# Altium schematic symbol library SCH - MCU - STM32 - ST MICROELECTRONICS STM32F103V(C-D-E)HX LFBGA100.SchLib: 1 symbol
Pins are listed as number, name and electrical type; pins without a type are passive.

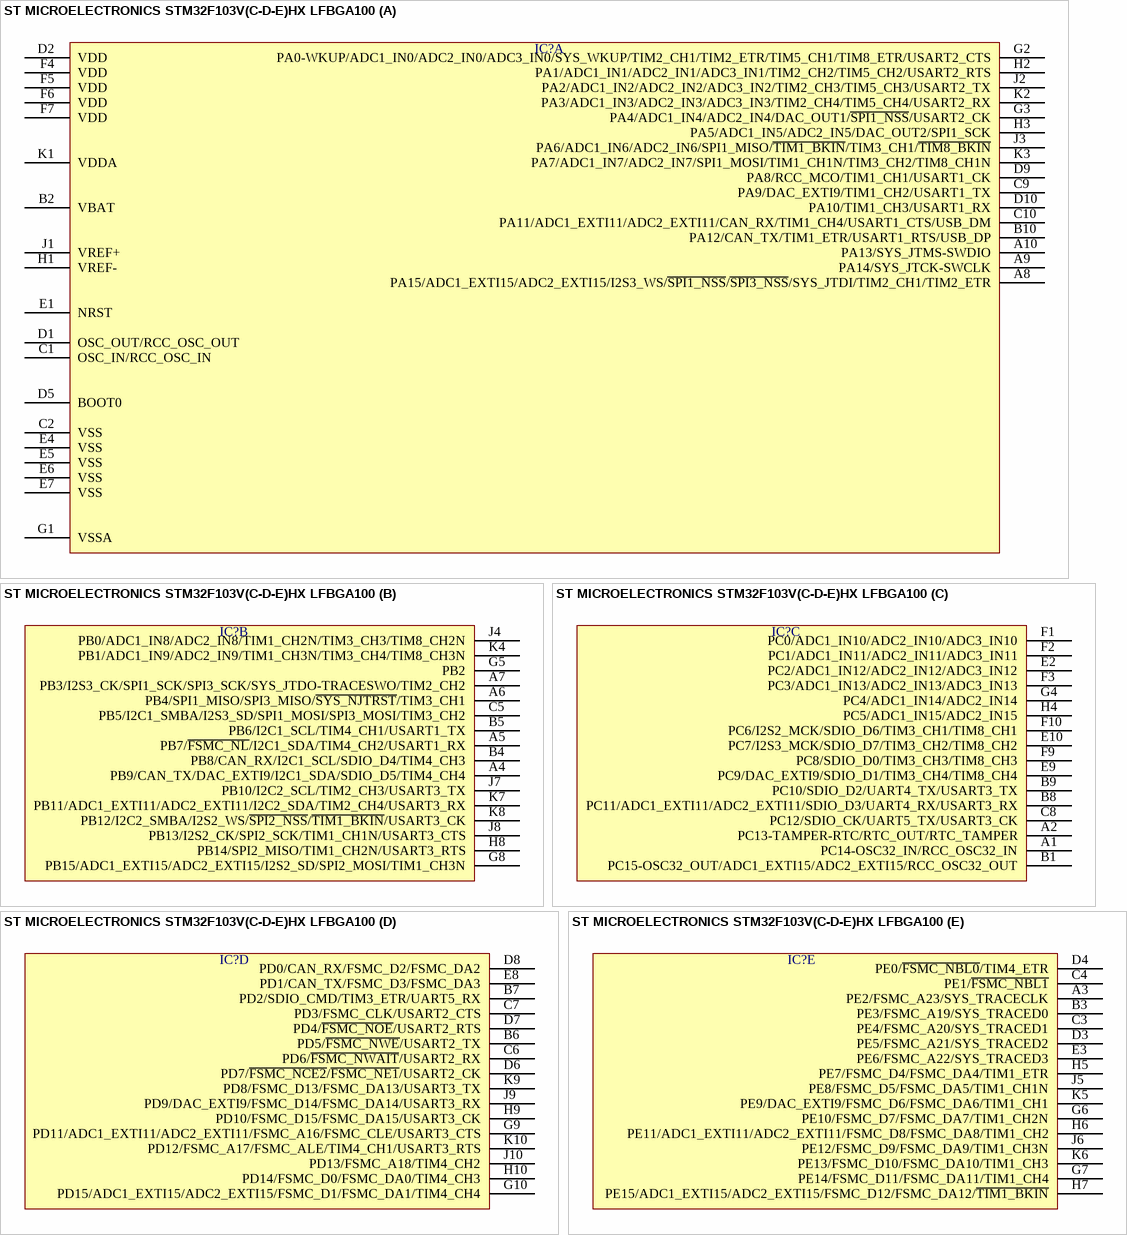
[diagram p0: symbol ST MICROELECTRONICS STM32F103V(C-D-E)HX LFBGA100]

## ST MICROELECTRONICS STM32F103V(C-D-E)HX LFBGA100
designator IC?  (value not drawn)
part A pins: A8 PA15/ADC1_EXTI15/ADC2_EXTI15/I2S3_WS/~{SPI1_NSS}/~{SPI3_NSS}/SYS_JTDI/TIM2_CH1/TIM2_ETR, A9 PA14/SYS_JTCK-SWCLK, A10 PA13/SYS_JTMS-SWDIO, B2 VBAT, B10 PA12/CAN_TX/TIM1_ETR/USART1_RTS/USB_DP, C1 OSC_IN/RCC_OSC_IN, C2 VSS, C9 PA9/DAC_EXTI9/TIM1_CH2/USART1_TX, C10 PA11/ADC1_EXTI11/ADC2_EXTI11/CAN_RX/TIM1_CH4/USART1_CTS/USB_DM, D1 OSC_OUT/RCC_OSC_OUT, D2 VDD, D5 BOOT0, D9 PA8/RCC_MCO/TIM1_CH1/USART1_CK, D10 PA10/TIM1_CH3/USART1_RX, E1 NRST, E4 VSS, E5 VSS, E6 VSS, E7 VSS, F4 VDD, F5 VDD, F6 VDD, F7 VDD, G1 VSSA, G2 PA0-WKUP/ADC1_IN0/ADC2_IN0/ADC3_IN0/SYS_WKUP/TIM2_CH1/TIM2_ETR/TIM5_CH1/TIM8_ETR/USART2_CTS, G3 PA4/ADC1_IN4/ADC2_IN4/DAC_OUT1/~{SPI1_NSS}/USART2_CK, H1 VREF-, H2 PA1/ADC1_IN1/ADC2_IN1/ADC3_IN1/TIM2_CH2/TIM5_CH2/USART2_RTS, H3 PA5/ADC1_IN5/ADC2_IN5/DAC_OUT2/SPI1_SCK, J1 VREF+, J2 PA2/ADC1_IN2/ADC2_IN2/ADC3_IN2/TIM2_CH3/TIM5_CH3/USART2_TX, J3 PA6/ADC1_IN6/ADC2_IN6/SPI1_MISO/~{TIM1_BKIN}/TIM3_CH1/~{TIM8_BKIN}, K1 VDDA, K2 PA3/ADC1_IN3/ADC2_IN3/ADC3_IN3/TIM2_CH4/TIM5_CH4/USART2_RX, K3 PA7/ADC1_IN7/ADC2_IN7/SPI1_MOSI/TIM1_CH1N/TIM3_CH2/TIM8_CH1N
part B pins: A4 PB9/CAN_TX/DAC_EXTI9/I2C1_SDA/SDIO_D5/TIM4_CH4, A5 PB7/~{FSMC_NL}/I2C1_SDA/TIM4_CH2/USART1_RX, A6 PB4/SPI1_MISO/SPI3_MISO/~{SYS_NJTRST}/TIM3_CH1, A7 PB3/I2S3_CK/SPI1_SCK/SPI3_SCK/SYS_JTDO-TRACESWO/TIM2_CH2, B4 PB8/CAN_RX/I2C1_SCL/SDIO_D4/TIM4_CH3, B5 PB6/I2C1_SCL/TIM4_CH1/USART1_TX, C5 PB5/I2C1_SMBA/I2S3_SD/SPI1_MOSI/SPI3_MOSI/TIM3_CH2, G5 PB2, G8 PB15/ADC1_EXTI15/ADC2_EXTI15/I2S2_SD/SPI2_MOSI/TIM1_CH3N, H8 PB14/SPI2_MISO/TIM1_CH2N/USART3_RTS, J4 PB0/ADC1_IN8/ADC2_IN8/TIM1_CH2N/TIM3_CH3/TIM8_CH2N, J7 PB10/I2C2_SCL/TIM2_CH3/USART3_TX, J8 PB13/I2S2_CK/SPI2_SCK/TIM1_CH1N/USART3_CTS, K4 PB1/ADC1_IN9/ADC2_IN9/TIM1_CH3N/TIM3_CH4/TIM8_CH3N, K7 PB11/ADC1_EXTI11/ADC2_EXTI11/I2C2_SDA/TIM2_CH4/USART3_RX, K8 PB12/I2C2_SMBA/I2S2_WS/~{SPI2_NSS}/~{TIM1_BKIN}/USART3_CK
part C pins: A1 PC14-OSC32_IN/RCC_OSC32_IN, A2 PC13-TAMPER-RTC/RTC_OUT/RTC_TAMPER, B1 PC15-OSC32_OUT/ADC1_EXTI15/ADC2_EXTI15/RCC_OSC32_OUT, B8 PC11/ADC1_EXTI11/ADC2_EXTI11/SDIO_D3/UART4_RX/USART3_RX, B9 PC10/SDIO_D2/UART4_TX/USART3_TX, C8 PC12/SDIO_CK/UART5_TX/USART3_CK, E2 PC2/ADC1_IN12/ADC2_IN12/ADC3_IN12, E9 PC9/DAC_EXTI9/SDIO_D1/TIM3_CH4/TIM8_CH4, E10 PC7/I2S3_MCK/SDIO_D7/TIM3_CH2/TIM8_CH2, F1 PC0/ADC1_IN10/ADC2_IN10/ADC3_IN10, F2 PC1/ADC1_IN11/ADC2_IN11/ADC3_IN11, F3 PC3/ADC1_IN13/ADC2_IN13/ADC3_IN13, F9 PC8/SDIO_D0/TIM3_CH3/TIM8_CH3, F10 PC6/I2S2_MCK/SDIO_D6/TIM3_CH1/TIM8_CH1, G4 PC4/ADC1_IN14/ADC2_IN14, H4 PC5/ADC1_IN15/ADC2_IN15
part D pins: B6 PD5/~{FSMC_NWE}/USART2_TX, B7 PD2/SDIO_CMD/TIM3_ETR/UART5_RX, C6 PD6/~{FSMC_NWAIT}/USART2_RX, C7 PD3/FSMC_CLK/USART2_CTS, D6 PD7/~{FSMC_NCE2}/~{FSMC_NE1}/USART2_CK, D7 PD4/~{FSMC_NOE}/USART2_RTS, D8 PD0/CAN_RX/FSMC_D2/FSMC_DA2, E8 PD1/CAN_TX/FSMC_D3/FSMC_DA3, G9 PD11/ADC1_EXTI11/ADC2_EXTI11/FSMC_A16/FSMC_CLE/USART3_CTS, G10 PD15/ADC1_EXTI15/ADC2_EXTI15/FSMC_D1/FSMC_DA1/TIM4_CH4, H9 PD10/FSMC_D15/FSMC_DA15/USART3_CK, H10 PD14/FSMC_D0/FSMC_DA0/TIM4_CH3, J9 PD9/DAC_EXTI9/FSMC_D14/FSMC_DA14/USART3_RX, J10 PD13/FSMC_A18/TIM4_CH2, K9 PD8/FSMC_D13/FSMC_DA13/USART3_TX, K10 PD12/FSMC_A17/FSMC_ALE/TIM4_CH1/USART3_RTS
part E pins: A3 PE2/FSMC_A23/SYS_TRACECLK, B3 PE3/FSMC_A19/SYS_TRACED0, C3 PE4/FSMC_A20/SYS_TRACED1, C4 PE1/~{FSMC_NBL1}, D3 PE5/FSMC_A21/SYS_TRACED2, D4 PE0/~{FSMC_NBL0}/TIM4_ETR, E3 PE6/FSMC_A22/SYS_TRACED3, G6 PE10/FSMC_D7/FSMC_DA7/TIM1_CH2N, G7 PE14/FSMC_D11/FSMC_DA11/TIM1_CH4, H5 PE7/FSMC_D4/FSMC_DA4/TIM1_ETR, H6 PE11/ADC1_EXTI11/ADC2_EXTI11/FSMC_D8/FSMC_DA8/TIM1_CH2, H7 PE15/ADC1_EXTI15/ADC2_EXTI15/FSMC_D12/FSMC_DA12/~{TIM1_BKIN}, J5 PE8/FSMC_D5/FSMC_DA5/TIM1_CH1N, J6 PE12/FSMC_D9/FSMC_DA9/TIM1_CH3N, K5 PE9/DAC_EXTI9/FSMC_D6/FSMC_DA6/TIM1_CH1, K6 PE13/FSMC_D10/FSMC_DA10/TIM1_CH3